# EAGLE library part SAF-C164CI (library C164CI)
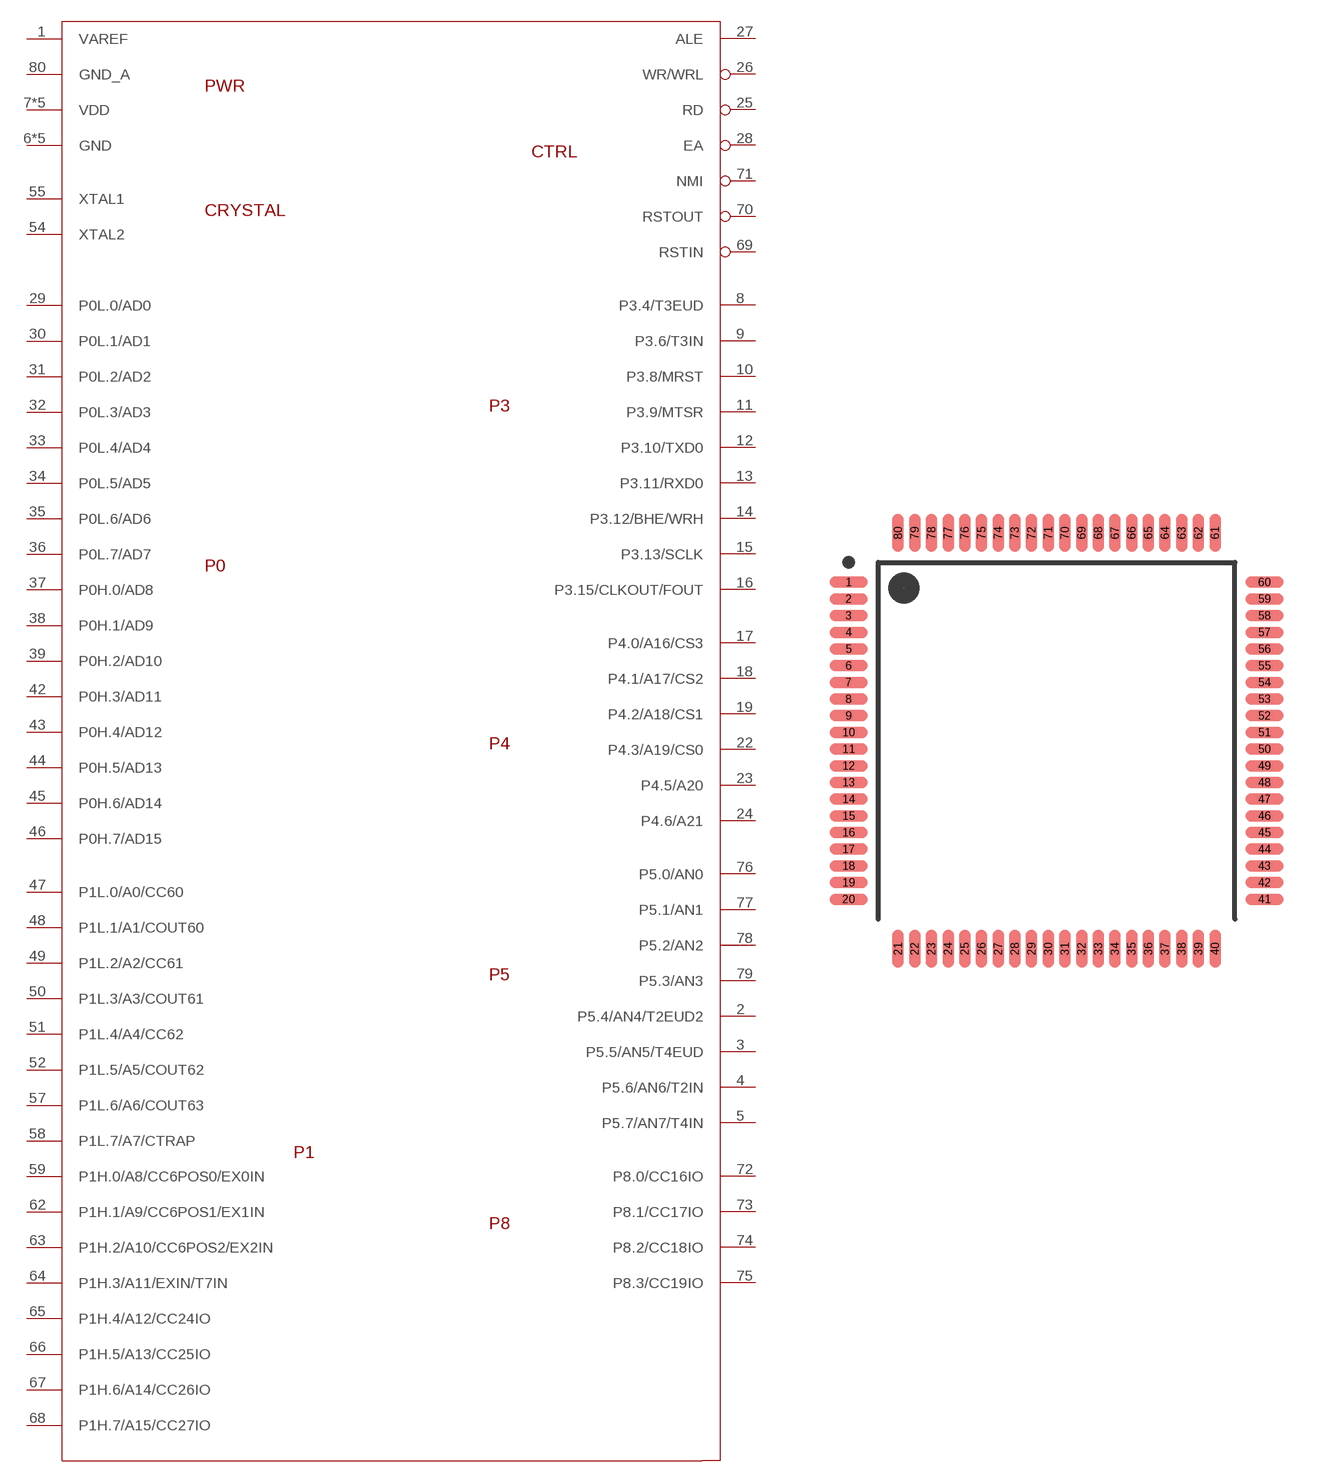
[diagram p0: symbol with the pads of MQFP-80; footprint MQFP-80]

Designator prefix -

## SAF-C164CI  [MQFP-80]
1  VAREF  pwr
2  P5.4/AN4/T2EUD2
3  P5.5/AN5/T4EUD
4  P5.6/AN6/T2IN
5  P5.7/AN7/T4IN
6  GND  pwr
7  VDD  pwr
8  P3.4/T3EUD
9  P3.6/T3IN
10  P3.8/MRST
11  P3.9/MTSR
12  P3.10/TXD0
13  P3.11/RXD0
14  P3.12/BHE/WRH
15  P3.13/SCLK
16  P3.15/CLKOUT/FOUT
17  P4.0/A16/CS3
18  P4.1/A17/CS2
19  P4.2/A18/CS1
20  GND  pwr
21  VDD  pwr
22  P4.3/A19/CS0
23  P4.5/A20
24  P4.6/A21
25  RD  out
26  WR/WRL  out
27  ALE  out
28  EA  in
29  P0L.0/AD0
30  P0L.1/AD1
31  P0L.2/AD2
32  P0L.3/AD3
33  P0L.4/AD4
34  P0L.5/AD5
35  P0L.6/AD6
36  P0L.7/AD7
37  P0H.0/AD8
38  P0H.1/AD9
39  P0H.2/AD10
40  VDD  pwr
41  GND  pwr
42  P0H.3/AD11
43  P0H.4/AD12
44  P0H.5/AD13
45  P0H.6/AD14
46  P0H.7/AD15
47  P1L.0/A0/CC60
48  P1L.1/A1/COUT60
49  P1L.2/A2/CC61
50  P1L.3/A3/COUT61
51  P1L.4/A4/CC62
52  P1L.5/A5/COUT62
53  VDD  pwr
54  XTAL2  out
55  XTAL1  in
56  GND  pwr
57  P1L.6/A6/COUT63
58  P1L.7/A7/CTRAP
59  P1H.0/A8/CC6POS0/EX0IN
60  GND  pwr
61  VDD  pwr
62  P1H.1/A9/CC6POS1/EX1IN
63  P1H.2/A10/CC6POS2/EX2IN
64  P1H.3/A11/EXIN/T7IN
65  P1H.4/A12/CC24IO
66  P1H.5/A13/CC25IO
67  P1H.6/A14/CC26IO
68  P1H.7/A15/CC27IO
69  RSTIN
70  RSTOUT  out
71  NMI  in
72  P8.0/CC16IO
73  P8.1/CC17IO
74  P8.2/CC18IO
75  P8.3/CC19IO
76  P5.0/AN0
77  P5.1/AN1
78  P5.2/AN2
79  P5.3/AN3
80  GND_A  pwr

## Footprint MQFP-80 (pad centres in mm)
Original name INF-P-MQFP-80-7_L
smd 1.5 x 0.45: 1 -8.1,6.175; 2 -8.1,5.525; 3 -8.1,4.875; 4 -8.1,4.225; 5 -8.1,3.575; 6 -8.1,2.925; 7 -8.1,2.275; 8 -8.1,1.625; 9 -8.1,0.975; 10 -8.1,0.325; 11 -8.1,-0.325; 12 -8.1,-0.975; 13 -8.1,-1.625; 14 -8.1,-2.275; 15 -8.1,-2.925; 16 -8.1,-3.575; 17 -8.1,-4.225; 18 -8.1,-4.875; 19 -8.1,-5.525; 20 -8.1,-6.175; 41 8.1,-6.175; 42 8.1,-5.525; 43 8.1,-4.875; 44 8.1,-4.225; 45 8.1,-3.575; 46 8.1,-2.925; 47 8.1,-2.275; 48 8.1,-1.625; 49 8.1,-0.975; 50 8.1,-0.325; 51 8.1,0.325; 52 8.1,0.975; 53 8.1,1.625; 54 8.1,2.275; 55 8.1,2.925; 56 8.1,3.575; 57 8.1,4.225; 58 8.1,4.875; 59 8.1,5.525; 60 8.1,6.175
smd 0.45 x 1.5: 21 -6.175,-8.1; 22 -5.525,-8.1; 23 -4.875,-8.1; 24 -4.225,-8.1; 25 -3.575,-8.1; 26 -2.925,-8.1; 27 -2.275,-8.1; 28 -1.625,-8.1; 29 -0.975,-8.1; 30 -0.325,-8.1; 31 0.325,-8.1; 32 0.975,-8.1; 33 1.625,-8.1; 34 2.275,-8.1; 35 2.925,-8.1; 36 3.575,-8.1; 37 4.225,-8.1; 38 4.875,-8.1; 39 5.525,-8.1; 40 6.175,-8.1; 61 6.175,8.1; 62 5.525,8.1; 63 4.875,8.1; 64 4.225,8.1; 65 3.575,8.1; 66 2.925,8.1; 67 2.275,8.1; 68 1.625,8.1; 69 0.975,8.1; 70 0.325,8.1; 71 -0.325,8.1; 72 -0.975,8.1; 73 -1.625,8.1; 74 -2.275,8.1; 75 -2.925,8.1; 76 -3.575,8.1; 77 -4.225,8.1; 78 -4.875,8.1; 79 -5.525,8.1; 80 -6.175,8.1